# Altium footprint library ST-LINK-PCBLIB.PcbLib: 15 footprints
Each footprint in its own frame and in the unit in brackets; x right, y up, seen from the top. Pads: shape width x height; smd on the part's side, far side on the other; paste and mask are expansions set on the pad; w line width, h text height; cw(c..) or ccw(c..) is an arc to the next point about the centre after c.
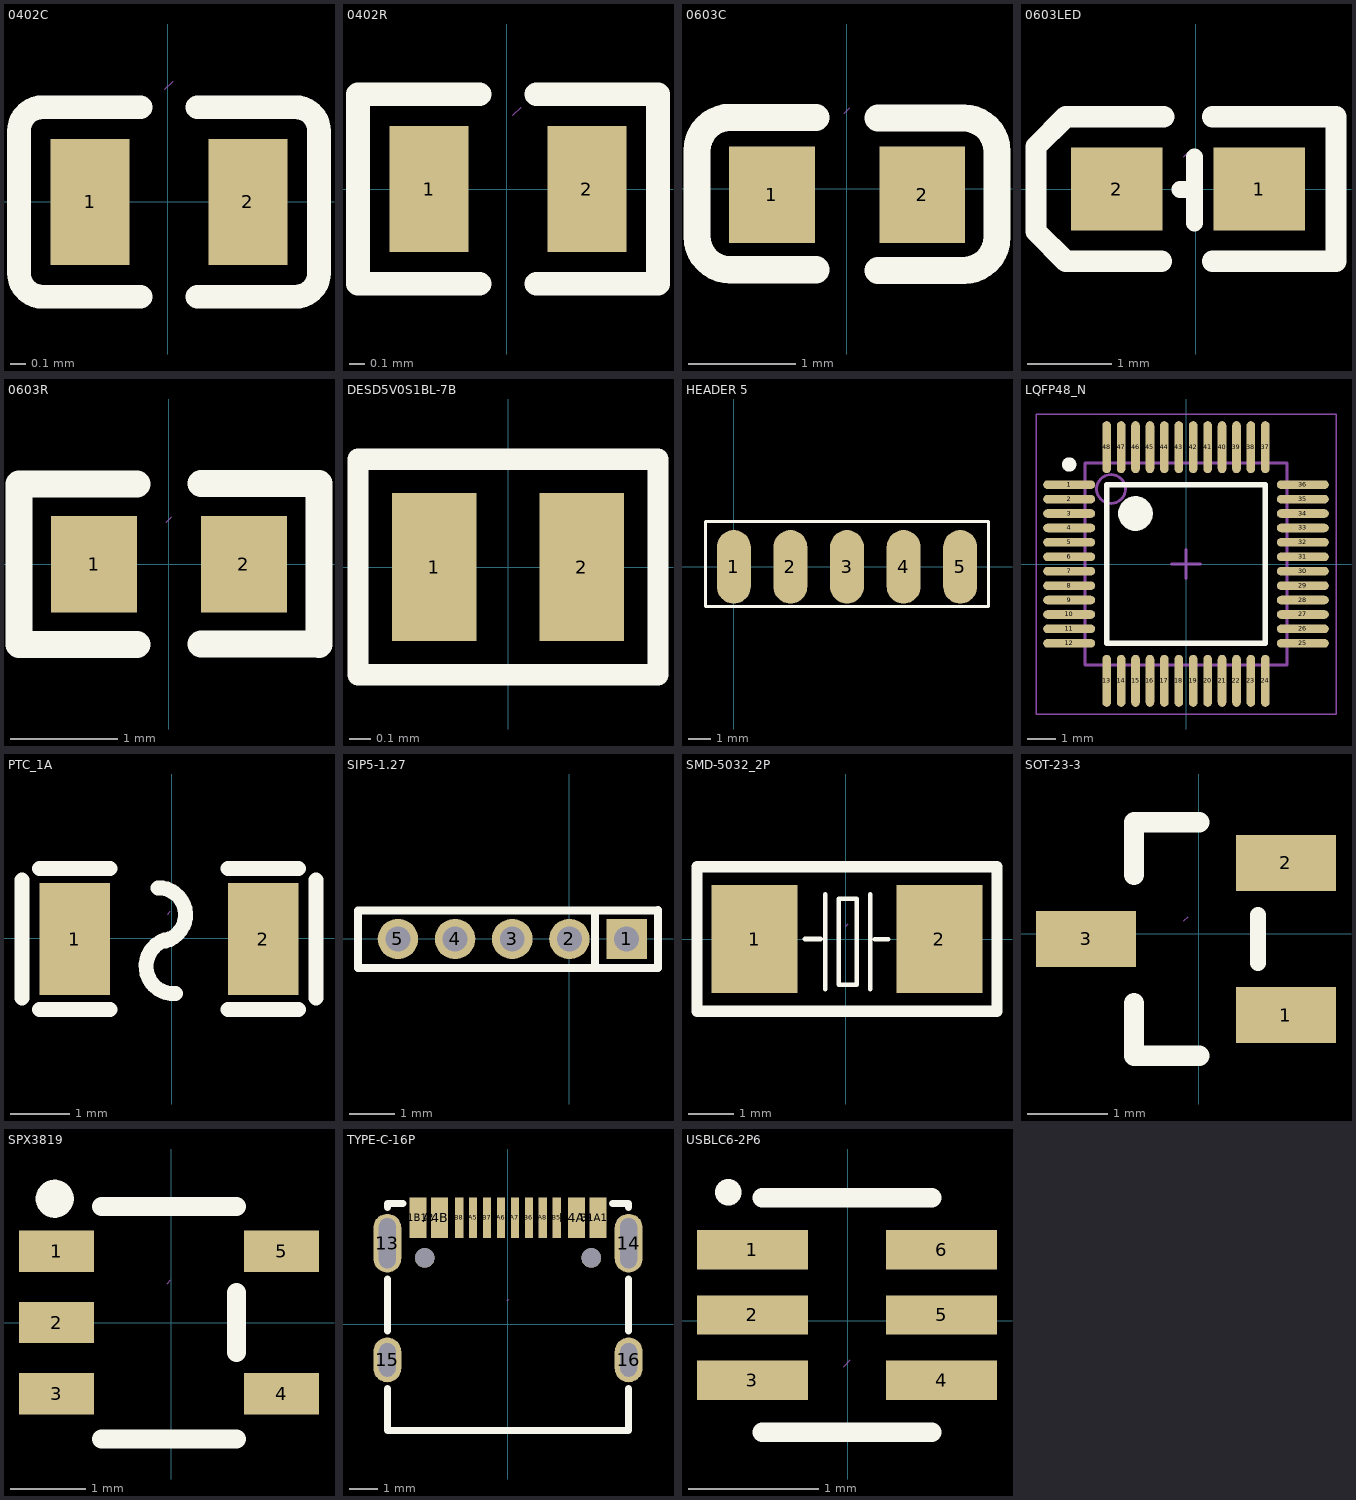
[diagram p0: the footprints below, top view; thin cyan lines are the x and y axes]

## 0402C [mm] "0402C"
pads (2):
  rect 0.5x0.8 smd: 1(-0.491,0) 2(0.509,0)
Top Overlay:
  lines w0.15: -0.171,-0.6 -0.791,-0.6 cw(c-0.791,-0.45) -0.941,-0.45 -0.941,-0.4 -0.941,0.4 -0.941,0.45 cw(c-0.791,0.45) -0.791,0.6 -0.171,0.6 ; 0.189,-0.6 0.809,-0.6 ccw(c0.809,-0.45) 0.959,-0.45 0.959,-0.4 0.959,0.4 0.959,0.45 ccw(c0.809,0.45) 0.809,0.6 0.189,0.6
Mechanical 15:
  lines w0.003: -0.016,0.714 0.034,0.764

## 0402R [mm] "0402R"
pads (2):
  rect 0.5x0.8 smd: 1(-0.491,0) 2(0.509,0)
Top Overlay:
  lines w0.15: -0.171,-0.6 -0.941,-0.6 -0.941,0.6 -0.171,0.6 ; 0.189,-0.6 0.959,-0.6 0.959,0.6 0.189,0.6
Mechanical 15:
  lines w0.003: 0.041,0.468 0.091,0.519

## 0603C [mm] "Capasitor 0603"
pads (2):
  rect 0.8x0.9 smd: 1(-0.698,-0.058) 2(0.701,-0.058)
Top Overlay:
  lines w0.254: -0.287,-0.756 -1.087,-0.756 cw(c-1.087,-0.446) -1.397,-0.446 -1.397,0.354 cw(c-1.087,0.354) -1.087,0.663 -0.287,0.663 ; 0.289,-0.762 1.089,-0.762 ccw(c1.089,-0.452) 1.398,-0.452 1.398,0.348 ccw(c1.089,0.348) 1.089,0.658 0.289,0.658
Mechanical 15:
  lines w0.003: -0.025,0.705 0.026,0.755

## 0603LED [mil] "0603LED"
pads (2):
  rect 43x39 smd: 1(30,0) 2(-37,0)
Top Overlay:
  lines w7.99: -7.4,-0.31 -0.5,-0.31 ; -0.5,-16 -0.5,15
  lines w10: -16,-34 -61,-34 -75,-20 -75,20 -61,34 -15,34 ; 8,-34 66,-34 66,34 8,34
Mechanical 15:
  lines w0.1: -5.5,15.25 -3.5,17.25

## 0603R [mm] "RESISTOR"
pads (2):
  rect 0.8x0.9 smd: 1(-0.696,0) 2(0.704,0)
Top Overlay:
  lines w0.254: -1.397,-0.75 -0.296,-0.75 ; -1.397,0.75 -0.296,0.75 ; -1.396,-0.75 -1.396,0.75 ; 0.305,-0.745 1.405,-0.745 ; 0.305,0.755 1.405,0.755 ; 1.405,-0.75 1.405,0.75
Mechanical 15:
  lines w0.003: -0.021,0.393 0.029,0.444

## DESD5V0S1BL-7B [mm] "1CHANNEL_ESD"
pads (2):
  rect 0.4x0.7 smd: 1(-0.351,0) 2(0.349,0)
Top Overlay:
  lines w0.102: -0.711,-0.51 -0.711,0.51 0.709,0.51 0.709,-0.51 -0.711,-0.51
Mechanical 15:
  lines w0.003: 0.165,0.488 0.215,0.539

## HEADER 5 [mil]
pads (5):
  oval 60x130 smd: 1(0,0) 2(100,0) 3(200,0) 4(300,0) 5(400,0)
Top Overlay:
  lines w5: -50,-70 -50,-30 -50,80 450,80 450,-70 -50,-70
3D body "1001-5.STEP": height 70, standoff -30, extent -50,-406.22 450,48.11

## LQFP48_N [mm] "Thin QFP, 48-Leads, Body 7x7mm, Pitch 0.5mm, IPC Medium Density"
height 1.6
pads (48):
  oval 1.8x0.3 smd: 1(-4.05,2.75) 2(-4.05,2.25) 3(-4.05,1.75) 4(-4.05,1.25) 5(-4.05,0.75) 6(-4.05,0.25) 7(-4.05,-0.25) 8(-4.05,-0.75) 9(-4.05,-1.25) 10(-4.05,-1.75) 11(-4.05,-2.25) 12(-4.05,-2.75) 25(4.05,-2.75) 26(4.05,-2.25) 27(4.05,-1.75) 28(4.05,-1.25) 29(4.05,-0.75) 30(4.05,-0.25) 31(4.05,0.25) 32(4.05,0.75) 33(4.05,1.25) 34(4.05,1.75) 35(4.05,2.25) 36(4.05,2.75)
  oval 0.3x1.8 smd: 13(-2.75,-4.05) 14(-2.25,-4.05) 15(-1.75,-4.05) 16(-1.25,-4.05) 17(-0.75,-4.05) 18(-0.25,-4.05) 19(0.25,-4.05) 20(0.75,-4.05) 21(1.25,-4.05) 22(1.75,-4.05) 23(2.25,-4.05) 24(2.75,-4.05) 37(2.75,4.05) 38(2.25,4.05) 39(1.75,4.05) 40(1.25,4.05) 41(0.75,4.05) 42(0.25,4.05) 43(-0.25,4.05) 44(-0.75,4.05) 45(-1.25,4.05) 46(-1.75,4.05) 47(-2.25,4.05) 48(-2.75,4.05)
Top Overlay:
  circle w0.6: c-1.75,1.75 r0.3
  circle w0.25: c-4.05,3.45 r0.125
  lines w0.2: -2.75,-2.75 2.75,-2.75 2.75,2.75 -2.75,2.75 -2.75,-2.75
Mechanical 13:
  circle w0.1: c-2.6,2.6 r0.5
  lines w0.1: -3.5,-3.5 3.5,-3.5 3.5,3.5 -3.5,3.5 -3.5,-3.5
Mechanical 15:
  lines w0.05: -5.2,-5.2 5.2,-5.2 5.2,5.2 -5.2,5.2 -5.2,-5.2
  lines w0.1: -0.5,0 0.5,0 ; 0,-0.5 0,0.5
3D body: height 1.6, standoff 0, extent -3.5,-3.5 3.5,3.5

## PTC_1A [mm] "PTC_1A"
pads (2):
  rect 1.2x1.9 smd: 1(-1.645,-0.012) 2(1.555,-0.012)
Top Overlay:
  lines w0.254: -2.545,-1.012 -2.545,0.988 ; -2.245,-1.212 -1.045,-1.212 ; -2.245,1.188 -1.045,1.188 ; -0.235,0.858 cw(c-0.223,0.399) -0.182,-0.059 ; -0.045,-0.012 ccw(c0.034,-0.475) 0.065,-0.942 ; 0.955,-1.212 2.155,-1.212 ; 0.955,1.188 2.155,1.188 ; 2.455,-1.012 2.455,0.988
Mechanical 15:
  lines w0.003: -0.07,0.41 -0.02,0.461

## SIP5-1.27 [mm]
pads (5):
  rect 0.9x0.9 hole 0.55: 1(1.27,0)
  round 0.9 hole 0.55: 2(0,0) 3(-1.27,0) 4(-2.54,0) 5(-3.81,0)
Top Overlay:
  lines w0.178: 0.57,-0.64 0.57,0.6 ; 1.97,0.508 1.97,0.63 -4.699,0.63 -4.699,-0.64 1.97,-0.64 1.97,0.64

## SMD-5032_2P [mm] "8M XTAL"
pads (2):
  rect 1.9x2.4 smd: 1(-2.027,0) 2(2.073,0)
Top Overlay:
  lines w0.1: -0.917,0 -0.561,0 ; -0.46,-1.109 -0.46,0.991 ; 0.54,-1.109 0.54,0.991 ; 0.64,-0.009 0.94,-0.009 ; -0.16,-1.009 0.24,-1.009 0.24,0.89 -0.16,0.89 -0.16,-1.009
  lines w0.254: -3.302,-1.6 -3.302,-0.7 -3.302,0.7 -3.302,1.6 3.348,1.6 3.348,0.7 3.348,-0.7 3.348,-1.6 -3.302,-1.6
Mechanical 15:
  lines w0.003: -0.002,0.286 0.048,0.337

## SOT-23-3 [mm] "S9013_NPN"
pads (3):
  rect 1.25x0.7 smd: 1(1.092,-1.014) 2(1.092,0.886) 3(-1.407,-0.064)
Top Overlay:
  lines w0.2: 0.743,-0.364 0.743,0.236
  lines w0.254: -0.807,-0.864 -0.807,-1.524 0.008,-1.524 ; 0.008,1.396 -0.807,1.396 ; -0.807,0.736 -0.807,1.396 ; -0.807,0.736 -0.807,1.396 ; -0.807,0.736 -0.807,1.396
Mechanical 15:
  lines w0.003: -0.183,0.165 -0.132,0.216

## SPX3819 [mm] "SPX3819_5VTO3V3_LDO"
pads (5):
  rect 1x0.55 smd: 1(-1.532,0.95) 2(-1.532,0) 3(-1.532,-0.95) 4(1.468,-0.95) 5(1.468,0.95)
Top Overlay:
  circle w0.254: c-1.556,1.651 r0.127
  lines w0.254: -0.932,-1.55 0.868,-1.55 ; -0.932,1.55 0.868,1.55 ; 0.868,-0.4 0.868,0.4
Mechanical 15:
  lines w0.003: -0.057,0.52 -0.007,0.571

## TYPE-C-16P [mm] "TYPE-C-16P"
pads (18):
  oval 1x2.099 hole 0.6 slot 1.8 at 90 deg: 13(-4.307,2.903) 14(4.333,2.903)
  oval 1x1.599 hole 0.6 slot 1.2 at 90 deg: 15(-4.307,-1.277) 16(4.333,-1.277)
  rect 0.6x1.45 smd: A1B12(-3.212,3.817) A4B9(-2.437,3.817) B1A12(3.233,3.817) B4A9(2.463,3.817)
  rect 0.3x1.45 smd: A5(-1.238,3.818) A6(-0.237,3.817) A7(0.263,3.817) A8(1.263,3.817) B5(1.763,3.817) B6(0.763,3.817) B7(-0.737,3.817) B8(-1.737,3.817)
  round 0.7 hole 0.7 unplated: ""(-2.967,2.372) ""(2.993,2.372)
Top Overlay:
  lines w0.254: -4.305,-2.309 -4.305,-3.81 4.331,-3.81 4.331,-2.309 ; -4.305,-0.246 -4.305,1.621 ; -4.305,4.184 -4.305,4.318 -3.743,4.318 ; 3.764,4.318 4.331,4.318 4.331,4.184 ; 4.331,-0.246 4.331,1.621
Mechanical 15:
  lines w0.003: -0.012,0.836 0.038,0.886

## USBLC6-2P6 [mm] "ESD PROTECTION"
pads (6):
  rect 0.85x0.3 smd: 1(-0.732,0.544) 2(-0.732,0.044) 3(-0.732,-0.456) 4(0.718,-0.456) 5(0.718,0.044) 6(0.718,0.544)
Top Overlay:
  circle w0.203: c-0.917,0.984 r0
  lines w0.15: -0.657,-0.856 0.643,-0.856 ; -0.657,0.944 0.643,0.944
Mechanical 15:
  lines w0.003: -0.033,-0.352 0.018,-0.301